# EAGLE library part BMS_MAIN (library EL_POTENCIA_LIBRERIA_VES2018)
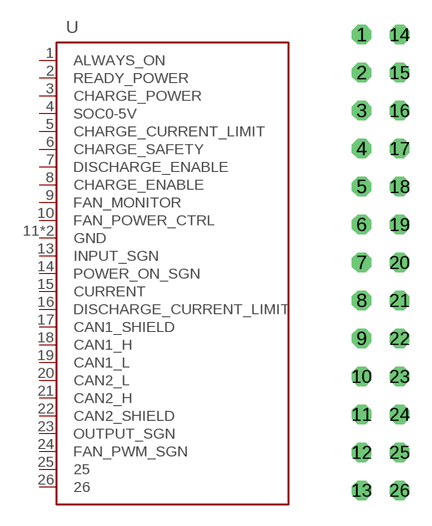
[diagram p3: symbol with the pads of BMS_MAIN; footprint BMS_MAIN]

Designator prefix -

## BMS_MAIN  [BMS_MAIN]
1  ALWAYS_ON
2  READY_POWER
3  CHARGE_POWER
4  SOC0-5V
5  CHARGE_CURRENT_LIMIT
6  CHARGE_SAFETY
7  DISCHARGE_ENABLE
8  CHARGE_ENABLE
9  FAN_MONITOR
10  FAN_POWER_CTRL
11  GND
12  GND
13  INPUT_SGN
14  POWER_ON_SGN
15  CURRENT
16  DISCHARGE_CURRENT_LIMIT
17  CAN1_SHIELD
18  CAN1_H
19  CAN1_L
20  CAN2_L
21  CAN2_H
22  CAN2_SHIELD
23  OUTPUT_SGN
24  FAN_PWM_SGN
25  25  nc
26  26  nc

## Footprint BMS_MAIN (pad centres in mm)
drill 0.8 octagon: 1 -15.24,10.16; 2 -15.24,7.62; 3 -15.24,5.08; 4 -15.24,2.54; 5 -15.24,0; 6 -15.24,-2.54; 7 -15.24,-5.08; 8 -15.24,-7.62; 9 -15.24,-10.16; 10 -15.24,-12.7; 11 -15.24,-15.24; 12 -15.24,-17.78; 13 -15.24,-20.32; 14 -12.7,10.16; 15 -12.7,7.62; 16 -12.7,5.08; 17 -12.7,2.54; 18 -12.7,0; 19 -12.7,-2.54; 20 -12.7,-5.08; 21 -12.7,-7.62; 22 -12.7,-10.16; 23 -12.7,-12.7; 24 -12.7,-15.24; 25 -12.7,-17.78; 26 -12.7,-20.32